# Altium schematic symbol library Orient.SchLib: 98 symbols (part 1 of 5)
Pins are listed as number, name and electrical type; pins without a type are passive.

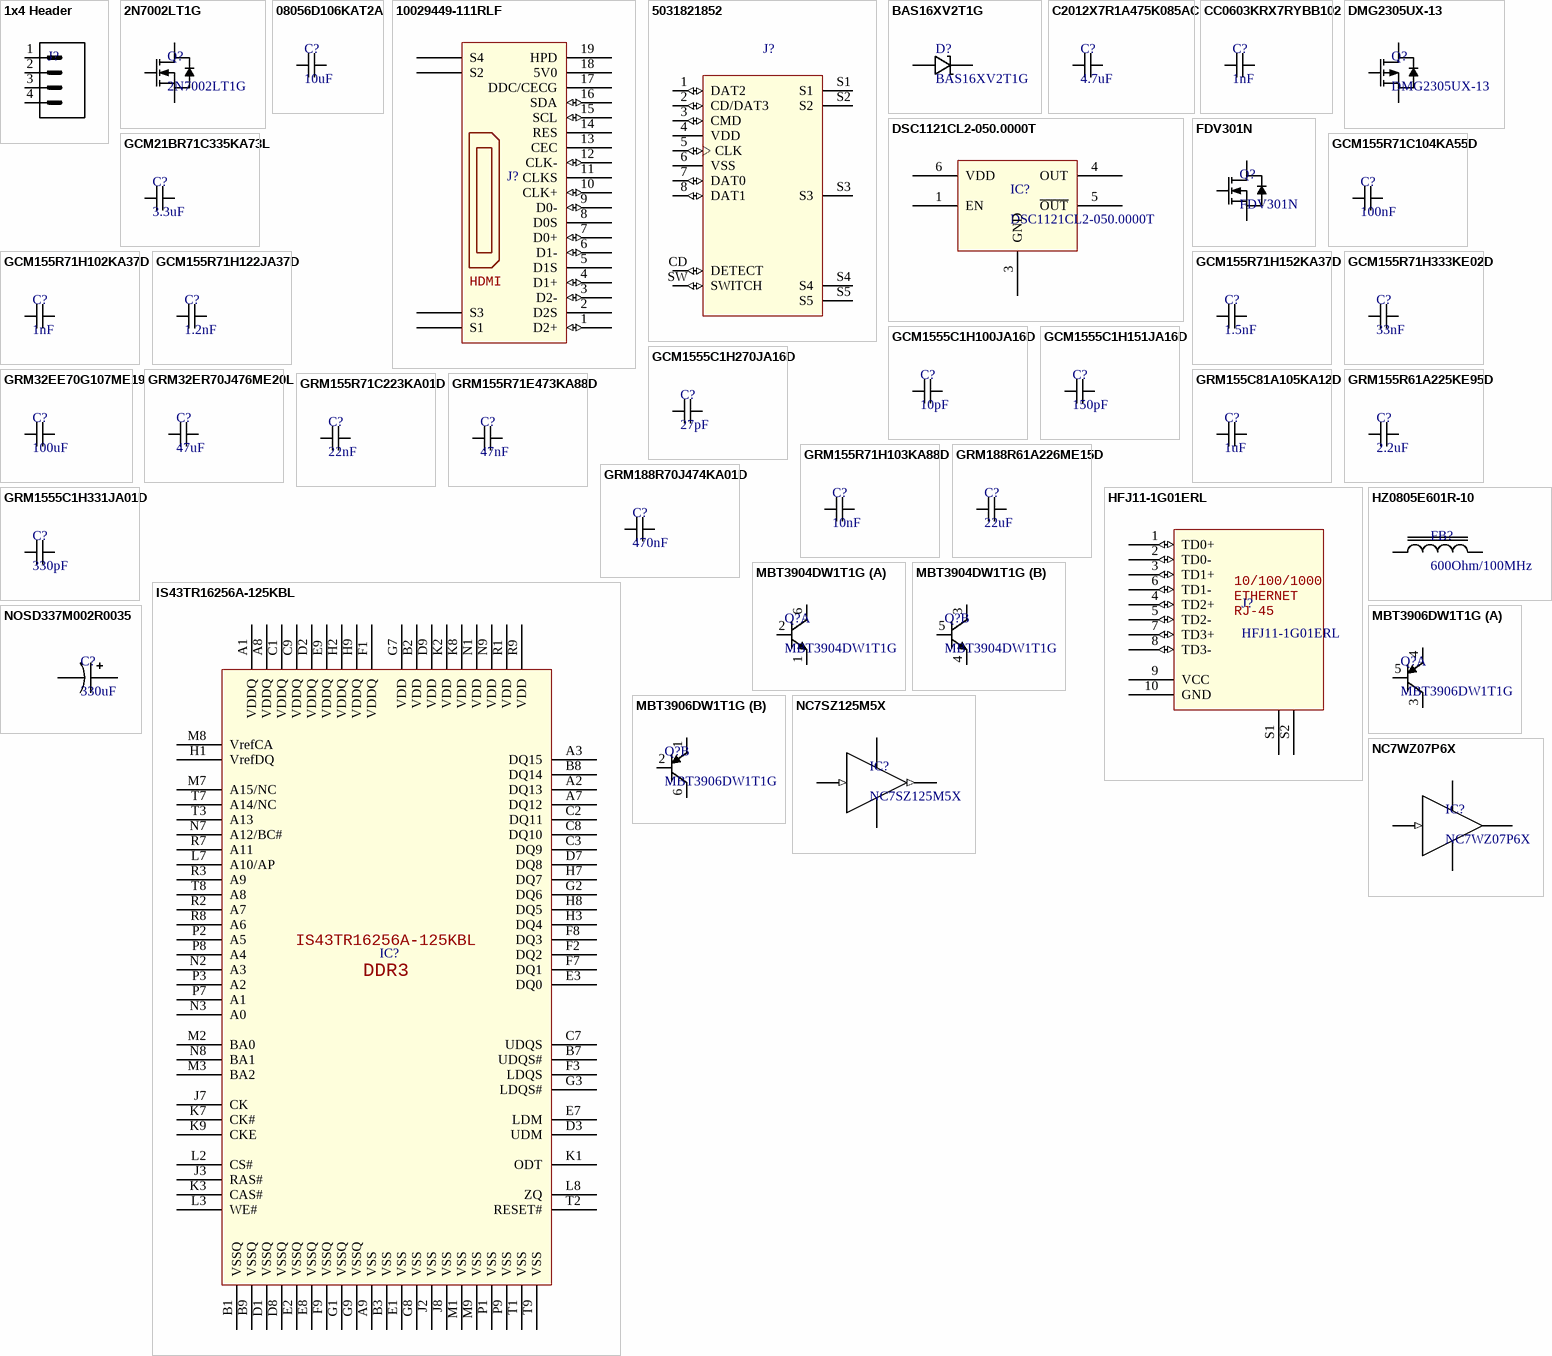
[diagram p0: symbols 1x4 Header to NOSD337M002R0035]

## 1x4 Header
designator J?  (value not drawn)
Header Female 1x4 2.54mm; Manufacturer: Sullins; Manufacturer Part Number: PPTC041LFBN-RC; Number of Positions: 4; Connector Type: Header,Socket; Pitch: 0.1inch; Supplier 1: Digi-Key; Stock 1: 5302; Pricing 1: 1=0.45000, 10=0.42400, 100=0.32500, 500=0.28260, 1000=0.23315, 5000=0.20489, 10000=0.20410 (USD); RoHS: Yes; Mount: Through Hole; Color: Black; Contact Plating: Tin; Contact Material: Bronze; Housing Material: Plastic; Package Quantity: 1000; Number of Rows: 1; Packaging: Bulk; Termination: Solder; Length: 10.7mm; Height: 8.5mm; Width: 2.5mm; Lead Free: Lead Free; ComponentLink1URL: https://media.digikey.com/pdf/Data%20Sheets/Sullins%20PDFs/Female_Headers.100_DS.pdf?src-supplier=Digi-Key; ComponentLink1Description: https://media.digikey.com/pdf/Data%20Sheets/Sullins%20PDFs/Female_Headers.100_DS.pdf?src-supplier=Digi-Key; ComponentLink2URL: http://www.sullinscorp.com/catalogs/78_Page80-81_HEADER_.100_2.54mm_FEMALE.pdf?src-supplier=Future+Electronics; ComponentLink2Description: http://www.sullinscorp.com/catalogs/78_Page80-81_HEADER_.100_2.54mm_FEMALE.pdf?src-supplier=Future+Electronics
footprint HEADER_1X4 (1x4 Female Header 2.54mm Pitch)
pins: 1, 2, 3, 4

## 2N7002LT1G
designator Q?
N-Channel MOSFET; Manufacturer: ON Semiconductor; Continuous Drain Current (ID): 115mA; Turn-Off Delay Time: 40ns; Turn-On Delay Time: 20ns; Gate to Source Voltage (Vgs): 20V; Rds On Max: 7.5R; Input Capacitance: 50pF; Nominal Vgs: 2.5V; Number of Elements: 1; Max Power Dissipation: 225mW; Drain to Source Voltage (Vdss): 60V; Power Dissipation: 300mW; Element Configuration: Single; Supplier 1: Digi-Key; Manufacturer Part Number: 2N7002LT1G; Stock 1: 2100666; Pricing 1: 1=0.19000, 10=0.16900, 100=0.09210, 500=0.05668, 1000=0.03864 (USD); RoHS: Yes; Case/Package: SOT-23-3; Number of Pins: 3; Contact Plating: Tin,Matte; Min Operating Temperature: -55°C; Max Operating Temperature: 150°C; Package Quantity: 1; Packaging: Tape and Reel; Drain to Source Breakdown Voltage: 60V; Drain to Source Resistance: 7.5R; Threshold Voltage: 2.5V; Voltage Rating (DC): 60V; Current Rating: 115mA; On-State Resistance: 7.5R; Number of Channels: 1; Length: 3.04mm; Height: 1.01mm; Width: 1.4mm; Radiation Hardening: No; REACH SVHC: No SVHC; Lead Free: Lead Free; Halogen Free: Halogen Free; ComponentLink1URL: https://datasheet.ciiva.com/936/2n7002l-d-936784.pdf?src-supplier=Digi-Key; ComponentLink1Description: https://datasheet.ciiva.com/936/2n7002l-d-936784.pdf?src-supplier=Digi-Key; ComponentLink2URL: https://datasheet.ciiva.com/22749/1747988-22749570.pdf?src-supplier=Element14; ComponentLink2Description: https://datasheet.ciiva.com/22749/1747988-22749570.pdf?src-supplier=Element14; ComponentLink3URL: https://datasheet.ciiva.com/1188/97418-1188470.pdf?src-supplier=Element14; ComponentLink3Description: https://datasheet.ciiva.com/1188/97418-1188470.pdf?src-supplier=Element14; ComponentLink4URL: https://datasheet.ciiva.com/936/2n7002l-d-936785.pdf?src-supplier=Digi-Key; ComponentLink4Description: https://datasheet.ciiva.com/936/2n7002l-d-936785.pdf?src-supplier=Digi-Key; ComponentLink5URL: https://datasheet.ciiva.com/936/2n7002l-d-936786.pdf?src-supplier=Digi-Key; ComponentLink5Description: https://datasheet.ciiva.com/936/2n7002l-d-936786.pdf?src-supplier=Digi-Key; ComponentLink6URL: https://datasheet.ciiva.com/1254/1747988-1254500.pdf?src-supplier=Newark; ComponentLink6Description: https://datasheet.ciiva.com/1254/1747988-1254500.pdf?src-supplier=Newark; ComponentLink7URL: https://datasheet.ciiva.com/24157/2n7002l-d-24157398.pdf?src-supplier=Future+Electronics; ComponentLink7Description: https://datasheet.ciiva.com/24157/2n7002l-d-24157398.pdf?src-supplier=Future+Electronics; ComponentLink8URL: https://datasheet.ciiva.com/1188/97418-1188471.pdf?src-supplier=Element14; ComponentLink8Description: https://datasheet.ciiva.com/1188/97418-1188471.pdf?src-supplier=Element14; ComponentLink9URL: https://datasheet.ciiva.com/8114/2n7002l-d-8114823.pdf?src-supplier=Avnet; ComponentLink9Description: https://datasheet.ciiva.com/8114/2n7002l-d-8114823.pdf?src-supplier=Avnet; ComponentLink10URL: https://datasheet.ciiva.com/3304/2n7002l-d-3304393.pdf?src-supplier=Avnet; ComponentLink10Description: https://datasheet.ciiva.com/3304/2n7002l-d-3304393.pdf?src-supplier=Avnet; ComponentLink11URL: https://datasheet.ciiva.com/26146/2n7002l-d-26146173.pdf?src-supplier=Avnet+Europe; ComponentLink11Description: https://datasheet.ciiva.com/26146/2n7002l-d-26146173.pdf?src-supplier=Avnet+Europe; ComponentLink12URL: https://datasheet.ciiva.com/16542/2n7002l-d-16542607.pdf?src-supplier=Avnet+Asia; ComponentLink12Description: https://datasheet.ciiva.com/16542/2n7002l-d-16542607.pdf?src-supplier=Avnet+Asia
footprint SOT-23 (SOT23, 3-Leads, Body 2.92x2.37mm, Pitch 0.95mm, IPC Medium Density)
pins: 1 G, 2 S, 3 D

## 08056D106KAT2A
designator C?, comment 10uF
MLCC 10uF 0805 SMD; Manufacturer: Kyocera AVX; Manufacturer Part Number: 08056D106KAT2A; Dielectric Material: Ceramic; Voltage Rating: 6.3V; Tolerance: 10%; Dielectric: X5R; Insulation Resistance: 500MR; Supplier 1: Digi-Key; Stock 1: 217962; Pricing 1: 1=0.50000, 10=0.35100, 100=0.23100, 500=0.17112, 1000=0.14545 (USD); RoHS: Yes; Mount: Surface Mount,PCB; Case/Package: 0805; Number of Pins: 2; Case Code (Imperial): 0805; Case Code (Metric): 2012; Min Operating Temperature: -55°C; Max Operating Temperature: 85°C; Capacitance: 10uF; Package Quantity: 1; Voltage Rating (DC): 6.3V; Packaging: Tape and Reel; Termination: SMD/SMT; Voltage: 6.3V; Length: 2.01mm; Height: 1.4mm; Width: 1.25mm; Thickness: 0.055inch; Depth: 1.25mm; Radiation Hardening: No; REACH SVHC: No SVHC; Lead Free: Lead Free; ComponentLink1URL: https://datasheet.ciiva.com/11788/0900766b80def1a5-11788549.pdf?src-supplier=RSComponents; ComponentLink1Description: https://datasheet.ciiva.com/11788/0900766b80def1a5-11788549.pdf?src-supplier=RSComponents; ComponentLink2URL: https://datasheet.ciiva.com/19467/2012662-19467718.pdf?src-supplier=Jameco; ComponentLink2Description: https://datasheet.ciiva.com/19467/2012662-19467718.pdf?src-supplier=Jameco; ComponentLink3URL: https://datasheet.ciiva.com/151/cx5r-151672.pdf?src-supplier=Digi-Key; ComponentLink3Description: https://datasheet.ciiva.com/151/cx5r-151672.pdf?src-supplier=Digi-Key; ComponentLink4URL: https://datasheet.ciiva.com/7812/26587-7812184.pdf?src-supplier=Element14; ComponentLink4Description: https://datasheet.ciiva.com/7812/26587-7812184.pdf?src-supplier=Element14; ComponentLink5URL: https://datasheet.ciiva.com/14598/70001028-14598616.pdf?src-supplier=Allied+Electronics; ComponentLink5Description: https://datasheet.ciiva.com/14598/70001028-14598616.pdf?src-supplier=Allied+Electronics; ComponentLink6URL: https://datasheet.ciiva.com/151/cx5r-151673.pdf?src-supplier=Digi-Key; ComponentLink6Description: https://datasheet.ciiva.com/151/cx5r-151673.pdf?src-supplier=Digi-Key; ComponentLink7URL: https://datasheet.ciiva.com/7812/26587-7812185.pdf?src-supplier=Element14; ComponentLink7Description: https://datasheet.ciiva.com/7812/26587-7812185.pdf?src-supplier=Element14; ComponentLink8URL: https://datasheet.ciiva.com/151/cx5r-151674.pdf?src-supplier=Digi-Key; ComponentLink8Description: https://datasheet.ciiva.com/151/cx5r-151674.pdf?src-supplier=Digi-Key; ComponentLink9URL: https://datasheet.ciiva.com/7812/1666675-7812186.pdf?src-supplier=Element14; ComponentLink9Description: https://datasheet.ciiva.com/7812/1666675-7812186.pdf?src-supplier=Element14; ComponentLink10URL: https://datasheet.ciiva.com/2988/cx5r-2988044.pdf?src-supplier=Avnet; ComponentLink10Description: https://datasheet.ciiva.com/2988/cx5r-2988044.pdf?src-supplier=Avnet; ComponentLink11URL: https://datasheet.ciiva.com/16392/cx5r-16392797.pdf?src-supplier=Future+Electronics; ComponentLink11Description: https://datasheet.ciiva.com/16392/cx5r-16392797.pdf?src-supplier=Future+Electronics; ComponentLink12URL: https://datasheet.ciiva.com/16544/cx5r-16544062.pdf?src-supplier=Avnet+Asia; ComponentLink12Description: https://datasheet.ciiva.com/16544/cx5r-16544062.pdf?src-supplier=Avnet+Asia
footprint CAP0805 (Chip Capacitor, 2-Leads, Body 2.00x1.25mm, IPC Medium Density)
pins: 1, 2

## 10029449-111RLF
designator J?, comment HDMI Connector  (value not drawn)
HDMI 1.4 Connector 19 Position; Manufacturer: Amphenol FCI; Manufacturer Part Number: 10029449-111RLF; Body Material: Stainless Steel; Gender: Receptacle; Voltage Rating: 40V; Number of Contacts: 19; Insulation Resistance: 100MR; Number of Ports: 1; Pitch: 0.5mm; Supplier 1: Digi-Key; Stock 1: 21394; Pricing 1: 1=0.80000, 10=0.74700, 25=0.67200, 50=0.59740, 100=0.57250 (USD); RoHS: Yes; Mount: Surface Mount,Horizontal; Contact Material: Copper Alloy,Bronze; Contact Plating: Gold; Color: Black; Number of Terminals: 19; Housing Material: Thermoplastic; Min Operating Temperature: -55°C; Max Operating Temperature: 85°C; Termination: Solder; Orientation: Right Angle; Package Quantity: 400; Packaging: Tape and Reel; Connector Type: HDMI; Number of Positions: 19; Max Voltage Rating (AC): 40V; Features: Shielded; Length: 15.7mm; Depth: 9.5mm; Radiation Hardening: No; REACH SVHC: No SVHC; Lead Free: Lead Free; ComponentLink1URL: https://datasheet.ciiva.com/851/10029449-851120.pdf?src-supplier=Digi-Key; ComponentLink1Description: https://datasheet.ciiva.com/851/10029449-851120.pdf?src-supplier=Digi-Key; ComponentLink2URL: https://datasheet.ciiva.com/851/10029449-851118.pdf?src-supplier=Digi-Key; ComponentLink2Description: https://datasheet.ciiva.com/851/10029449-851118.pdf?src-supplier=Digi-Key; ComponentLink3URL: https://datasheet.ciiva.com/851/10029449-851119.pdf?src-supplier=Digi-Key; ComponentLink3Description: https://datasheet.ciiva.com/851/10029449-851119.pdf?src-supplier=Digi-Key
footprint HDMI (SMD, 19-Leads, Body 15x9.5mm, Pitch 0.5mm)
pins: 1 D2+ (io), 2 D2S, 3 D2- (io), 4 D1+ (io), 5 D1S, 6 D1- (io), 7 D0+ (io), 8 D0S, 9 D0- (io), 10 CLK+ (io), 11 CLKS, 12 CLK- (io), 13 CEC, 14 RES, 15 SCL (io), 16 SDA (io), 17 DDC/CECG, 18 5V0, 19 HPD, S1, S2, S3, S4

## 5031821852
designator J?  (value not drawn)
MICRO SD NORMAL ULTRALOWPRO8CKTE; MF: Molex; Digi-Key_Part_Number: WM12834CT-ND; SnapEDA_Link: https://www.snapeda.com/parts/5031821852/Molex/view-part/?ref=snap; Package: None; MP: 5031821852; Digi-Key_Purchase_URL: https://www.digikey.com/product-detail/en/molex/5031821852/WM12834CT-ND/5823232?utm_source=snapeda&utm_medium=aggregator&utm_campaign=symbol; Value: *; ComponentLink1Description: Technical Drawing; ComponentLink1URL: https://www.molex.com/pdm_docs/sd/5031821852_sd.pdf
footprint 5031821852
pins: 1 DAT2 (io), 2 CD/DAT3 (io), 3 CMD (io), 4 VDD (power), 5 CLK (io), 6 VSS (power), 7 DAT0 (io), 8 DAT1 (io), CD DETECT (io), S1, S2, S3, S4, S5, SW SWITCH (io)

## BAS16XV2T1G
designator D?
DIODE GEN PURP 75V 200MA SOD523; Manufacturer: ON Semiconductor; Peak Reverse Current: 1uA; Reverse Recovery Time: 6ns; Power Dissipation: 200mW; Element Configuration: Single; Max Surge Current: 500mA; Forward Voltage: 1.25V; Polarity: Standard; Capacitance: 2pF; Supplier 1: Digi-Key; Manufacturer Part Number: BAS16XV2T1G; Stock 1: 246361; Pricing 1: 1=0.13000, 10=0.11600, 100=0.06330, 500=0.03898, 1000=0.02658 (USD); RoHS: Yes; Case/Package: SOD-523-2; Number of Pins: 2; Contact Plating: Tin,Matte; Min Operating Temperature: -55°C; Max Operating Temperature: 150°C; Package Quantity: 1; Forward Current: 200mA; Packaging: Tape and Reel; Average Rectified Current: 200mA; Max Repetitive Reverse Voltage (Vrrm): 75V; Max Reverse Voltage (DC): 75V; Recovery Time: 6ns; Max Reverse Leakage Current: 1uA; Peak Non-Repetitive Surge Current: 500mA; Max Forward Surge Current (Ifsm): 500mA; Output Current: 200mA; Length: 1.3mm; Height: 0.7mm; Width: 0.9mm; Radiation Hardening: No; Lead Free: Lead Free; Halogen Free: Halogen Free; REACH SVHC: No SVHC; ComponentLink1URL: https://datasheet.ciiva.com/915/bas16xv2t1-d-915360.pdf?src-supplier=Digi-Key; ComponentLink1Description: https://datasheet.ciiva.com/915/bas16xv2t1-d-915360.pdf?src-supplier=Digi-Key; ComponentLink2URL: https://datasheet.ciiva.com/4434/bas16xv2t1-d-103464-4434928.pdf?src-supplier=Mouser; ComponentLink2Description: https://datasheet.ciiva.com/4434/bas16xv2t1-d-103464-4434928.pdf?src-supplier=Mouser; ComponentLink3URL: https://datasheet.ciiva.com/22663/1708232-22663646.pdf?src-supplier=Element14; ComponentLink3Description: https://datasheet.ciiva.com/22663/1708232-22663646.pdf?src-supplier=Element14; ComponentLink4URL: https://datasheet.ciiva.com/36525/806485-36525908.pdf?src-supplier=Jameco; ComponentLink4Description: https://datasheet.ciiva.com/36525/806485-36525908.pdf?src-supplier=Jameco; ComponentLink5URL: https://datasheet.ciiva.com/15144/getdatasheetpartid-84399-15144565.pdf?src-supplier=Verical; ComponentLink5Description: https://datasheet.ciiva.com/15144/getdatasheetpartid-84399-15144565.pdf?src-supplier=Verical; ComponentLink6URL: https://datasheet.ciiva.com/16475/bas16xv2t1-d-16475723.pdf?src-supplier=Avnet+Asia; ComponentLink6Description: https://datasheet.ciiva.com/16475/bas16xv2t1-d-16475723.pdf?src-supplier=Avnet+Asia; ComponentLink7URL: https://datasheet.ciiva.com/25930/bas16xv2t1-d-25930683.pdf?src-supplier=Avnet+Europe; ComponentLink7Description: https://datasheet.ciiva.com/25930/bas16xv2t1-d-25930683.pdf?src-supplier=Avnet+Europe
pins: 1 C, 2 A

## C2012X7R1A475K085AC
designator C?, comment 4.7uF
MLCC 4.7uF 0805 SMD; Manufacturer: TDK; Manufacturer Part Number: C2012X7R1A475K085AC; Dielectric Material: Ceramic; Tolerance: 10%; Voltage Rating: 10V; Dielectric: X7R; Supplier 1: Digi-Key; Stock 1: 87407; Pricing 1: 1=0.22000, 10=0.15200, 100=0.08600, 500=0.06072, 1000=0.05313 (USD); RoHS: Yes; Mount: Surface Mount; Case/Package: 0805; Case Code (Metric): 2012; Case Code (Imperial): 0805; Min Operating Temperature: -55°C; Max Operating Temperature: 125°C; Package Quantity: 4000; Packaging: Cut Tape; Capacitance: 4.7uF; Voltage Rating (DC): 10V; Length: 0.079inch; Width: 0.049inch; Thickness: 0.039inch; REACH SVHC: No SVHC; Lead Free: Lead Free; ComponentLink1URL: https://datasheet.ciiva.com/14886/tdkmlcccaprange-14886121.pdf?src-supplier=Digi-Key; ComponentLink1Description: https://datasheet.ciiva.com/14886/tdkmlcccaprange-14886121.pdf?src-supplier=Digi-Key; ComponentLink2Description: https://product.tdk.com/info/en/catalog/datasheets/mlcc_commercial_general_en.pdf; ComponentLink2URL: https://product.tdk.com/info/en/catalog/datasheets/mlcc_commercial_general_en.pdf
footprint CAP0805 (Chip Capacitor, 2-Leads, Body 2.00x1.25mm, IPC Medium Density)
pins: 1, 2

## CC0603KRX7RYBB102
designator C?, comment 1nF
MLCC 1nF 250V 0603 SMD; Manufacturer: Yageo; Manufacturer Part Number: CC0603KRX7RYBB102; Tolerance: 10%; Supplier 1: Digi-Key; Stock 1: 12106; Pricing 1: 1=0.19000, 10=0.12900, 100=0.06540, 500=0.04478, 1000=0.03961 (USD); RoHS: Yes; Mount: Surface Mount; Case/Package: 0603; Min Operating Temperature: -55°C; Max Operating Temperature: 125°C; Packaging: Tape and Reel; Capacitance: 1nF; Voltage Rating: 250V; Length: 0.063inch; Width: 0.031inch; Thickness: 0.035inch; ComponentLink1URL: http://www.yageo.com/exep/pages/download/literatures/ProductSelectionGuide%202014_Final_2.pdf?src-supplier=Digi-Key; ComponentLink1Description: http://www.yageo.com/exep/pages/download/literatures/ProductSelectionGuide%202014_Final_2.pdf?src-supplier=Digi-Key; ComponentLink2URL: http://www.yageo.com/documents/recent/UPY-NP0X7R_MV_100-to-630V_21.pdf?src-supplier=Digi-Key; ComponentLink2Description: http://www.yageo.com/documents/recent/UPY-NP0X7R_MV_100-to-630V_21.pdf?src-supplier=Digi-Key
footprint CAP0603 (Chip Capacitor, 2-Leads, Body 1.60x0.80mm, IPC Medium Density)
pins: 1, 2

## DMG2305UX-13
designator Q?
P-Channel MOSFET; Manufacturer: Diodes; Rise Time: 13.7ns; Rds On Max: 52mR; Input Capacitance: 808pF; Continuous Drain Current (ID): 4.2A; Drain to Source Voltage (Vdss): 20V; Max Power Dissipation: 1.4W; Turn-On Delay Time: 10.8ns; Turn-Off Delay Time: 79.3ns; Fall Time: 34.7ns; Threshold Voltage: -900mV; Element Configuration: Single; Gate to Source Voltage (Vgs): 8V; Number of Channels: 1; Drain to Source Breakdown Voltage: -20V; On-State Resistance: 65MR; Supplier 1: Digi-Key; Manufacturer Part Number: DMG2305UX-13; Stock 1: 668135; Pricing 1: 1=0.38000, 10=0.31100, 100=0.16500, 500=0.10852, 1000=0.07380 (USD); RoHS: Yes; Mount: Surface Mount; Case/Package: SOT-23; Number of Pins: 3; Weight: 0.000282oz; Min Operating Temperature: -55°C; Max Operating Temperature: 150°C; Package Quantity: 1; Packaging: Tape and Reel; Drain to Source Resistance: 52mR; Length: 3mm; Height: 1.1mm; Width: 1.4mm; Radiation Hardening: No; REACH SVHC: No SVHC; Lead Free: Lead Free; ComponentLink1URL: https://datasheet.ciiva.com/30023/dmg2305ux-30023840.pdf?src-supplier=Avnet; ComponentLink1Description: https://datasheet.ciiva.com/30023/dmg2305ux-30023840.pdf?src-supplier=Avnet; ComponentLink2URL: https://datasheet.ciiva.com/18566/dmg2305ux-18566949.pdf?src-supplier=Digi-Key; ComponentLink2Description: https://datasheet.ciiva.com/18566/dmg2305ux-18566949.pdf?src-supplier=Digi-Key; ComponentLink3URL: https://datasheet.ciiva.com/18566/dmg2305ux-18566950.pdf?src-supplier=Digi-Key; ComponentLink3Description: https://datasheet.ciiva.com/18566/dmg2305ux-18566950.pdf?src-supplier=Digi-Key; ComponentLink4URL: https://datasheet.ciiva.com/18566/dmg2305ux-18566951.pdf?src-supplier=Digi-Key; ComponentLink4Description: https://datasheet.ciiva.com/18566/dmg2305ux-18566951.pdf?src-supplier=Digi-Key; ComponentLink5URL: https://datasheet.ciiva.com/26993/dmg2305ux-26993543.pdf?src-supplier=Future+Electronics; ComponentLink5Description: https://datasheet.ciiva.com/26993/dmg2305ux-26993543.pdf?src-supplier=Future+Electronics
footprint SOT-23 (SOT23, 3-Leads, Body 2.92x2.37mm, Pitch 0.95mm, IPC Medium Density)
pins: 1 G, 2 S, 3 D

## DSC1121CL2-050.0000T
designator IC?
Oscillator MEMS 50.000MHZ CMOS SMD; Manufacturer: Microchip; Frequency: 50MHz; Max Supply Current: 35mA; Frequency Stability: 25ppm; Supplier 1: Digi-Key; Manufacturer Part Number: DSC1121CL2-050.0000T; Stock 1: 1094; Pricing 1: 1=1.16000, 25=0.96840, 100=0.88580 (USD); RoHS: Yes; Mount: Surface Mount; Case/Package: SMD/SMT; Min Operating Temperature: -40°C; Max Operating Temperature: 105°C; Packaging: Tape and Reel; Length: 0.126inch; Height: 0.035inch; Width: 0.098inch; Ratings: AEC-Q100; ComponentLink1URL: http://www.mouser.com/ds/2/268/DSC1101%20DSC1121%20Datasheet%20MKQBPD11041001-6-961724.pdf?src-supplier=Mouser; ComponentLink1Description: http://www.mouser.com/ds/2/268/DSC1101%20DSC1121%20Datasheet%20MKQBPD11041001-6-961724.pdf?src-supplier=Mouser; ComponentLink2URL: http://www.microchip.com/mymicrochip/filehandler.aspx?ddocname=en576722&src-supplier=Digi-Key; ComponentLink2Description: http://www.microchip.com/mymicrochip/filehandler.aspx?ddocname=en576722&src-supplier=Digi-Key
pins: 1 EN, 3 GND, 4 OUT, 5 ~{OUT}, 6 VDD

## FDV301N
designator Q?
N-Channel MOSFET; Manufacturer: Fairchild; Rds(on) Test Voltage Vgs: 2.7V; Threshold Voltage Vgs Typ: 850mV; Voltage Vds Typ: 25V; Transistor Case Style: SOT-23; Reel Quantity: 3000; Voltage Vgs Rds on Measurement: 4.5V; Power Dissipation Pd: 350mW; Continuous Drain Current Id: 220mA; Transistor Polarity: NChannel; No. of Transistors: 1; Package Version: Rev. 12, 03/2016; Voltage Vgs th Max: 1.5V; ESD HBM: 6kV; Pulse Current Idm: 500mA; Current Temperature: 25degC; On Resistance Rds(on): 5ohm; External Depth: 2.5mm; SMD Marking: 301; No. of Pins: 3; External Width: 3.05mm; SVHC: NoSVHC(19-Dec-2012); External Length / Height: 1.12mm; Termination Type: SMD; Package Reference: SOT23-3; Package URL: http://www.fairchildsemi.com/dwg/MA/MA03D.pdf; Voltage Vgs Max: 850mV; Drain Source Voltage Vds: 25V; Operating Temperature Max: 150degC; Package Description: 3-Pin Small Outline Transistor, Body 2.92 x 1.325 mm, Pitch 0.95 mm; Operating Temperature Min: -55degC; Datasheet Version: Jun-09; Tape Width: 8mm; Full Power Rating Temperature: 25degC; Datasheet URL: https://datasheet.ciiva.com/8114/fdv301n-8114688.pdf; Package / Case: SOT-23; Manufacturer URL: https://www.fairchildsemi.com/; Current Id Max: 220mA; Operating Temperature Range: -55degCto+150degC
footprint SOT-23 (SOT23, 3-Leads, Body 2.92x2.37mm, Pitch 0.95mm, IPC Medium Density)
pins: 1 G, 2 S, 3 D

## GCM21BR71C335KA73L
designator C?, comment 3.3uF
MLCC 3.3uF 0805 SMD; Manufacturer: Murata; Manufacturer Part Number: GCM21BR71C335KA73L; Tolerance: 10%; Dielectric: X7R; Voltage Rating: 16V; Supplier 1: Digi-Key; Stock 1: 45507; Pricing 1: 1=0.43000, 10=0.30000, 100=0.17990, 500=0.13492, 1000=0.11393 (USD); RoHS: Yes; Mount: Surface Mount; Case/Package: 0805; Case Code (Metric): 2012; Case Code (Imperial): 0805; Min Operating Temperature: -55°C; Max Operating Temperature: 125°C; Capacitance: 3.3uF; Packaging: Tape and Reel; Voltage Rating (DC): 16V; Length: 2mm; Height: 1.25mm; Width: 0.049inch; Thickness: 0.057inch; Depth: 1.25mm; Ratings: AEC-Q200; Radiation Hardening: No; ComponentLink1URL: https://datasheet.ciiva.com/26889/getdatasheetpartid-729785-26889176.pdf?src-supplier=Verical; ComponentLink1Description: https://datasheet.ciiva.com/26889/getdatasheetpartid-729785-26889176.pdf?src-supplier=Verical; ComponentLink2URL: https://datasheet.ciiva.com/11614/product-11614111.pdf?src-supplier=Avnet; ComponentLink2Description: https://datasheet.ciiva.com/11614/product-11614111.pdf?src-supplier=Avnet
footprint CAP0805 (Chip Capacitor, 2-Leads, Body 2.00x1.25mm, IPC Medium Density)
pins: 1, 2

## GCM155R71C104KA55D
designator C?, comment 100nF
MLCC 100nF 0402 SMD; Manufacturer: Murata; Manufacturer Part Number: GCM155R71C104KA55D; Tolerance: 10%; Dielectric: X7R; Voltage Rating: 16V; Supplier 1: Digi-Key; Stock 1: 27621788; Pricing 1: 1=0.10000, 10=0.05900, 100=0.02630, 500=0.01878, 1000=0.01476, 2500=0.01341, 5000=0.01234 (USD); RoHS: Yes; Mount: Surface Mount; Case/Package: 0402; Case Code (Metric): 1005; Case Code (Imperial): 0402; Min Operating Temperature: -55°C; Max Operating Temperature: 125°C; Capacitance: 100nF; Package Quantity: 1; Packaging: Tape and Reel; Voltage Rating (DC): 16V; Termination: SMD/SMT; Voltage: 16V; Length: 1mm; Height: 0.5mm; Width: 0.02inch; Thickness: 0.022inch; Depth: 0.5mm; Ratings: AEC-Q200; Radiation Hardening: No; REACH SVHC: No SVHC; Lead Free: Lead Free; ComponentLink1URL: https://datasheet.ciiva.com/11786/0900766b80ef92d0-11786380.pdf?src-supplier=RSComponents; ComponentLink1Description: https://datasheet.ciiva.com/11786/0900766b80ef92d0-11786380.pdf?src-supplier=RSComponents; ComponentLink2URL: https://datasheet.ciiva.com/18183/getdatasheetpartid-220774-18183517.pdf?src-supplier=Verical; ComponentLink2Description: https://datasheet.ciiva.com/18183/getdatasheetpartid-220774-18183517.pdf?src-supplier=Verical; ComponentLink3URL: https://datasheet.ciiva.com/2989/product-2989234.pdf?src-supplier=Avnet; ComponentLink3Description: https://datasheet.ciiva.com/2989/product-2989234.pdf?src-supplier=Avnet; ComponentLink4URL: https://datasheet.ciiva.com/164/product-164315.pdf?src-supplier=Digi-Key; ComponentLink4Description: https://datasheet.ciiva.com/164/product-164315.pdf?src-supplier=Digi-Key; ComponentLink5URL: https://datasheet.ciiva.com/164/product-164316.pdf?src-supplier=Digi-Key; ComponentLink5Description: https://datasheet.ciiva.com/164/product-164316.pdf?src-supplier=Digi-Key; ComponentLink6URL: https://datasheet.ciiva.com/11463/product-11463804.pdf?src-supplier=Avnet; ComponentLink6Description: https://datasheet.ciiva.com/11463/product-11463804.pdf?src-supplier=Avnet
footprint CAP0402 (Chip Capacitor, 2-Leads, Body 1.00x0.50mm, IPC Medium Density)
pins: 1, 2

## GCM155R71H102KA37D
designator C?, comment 1nF
MLCC 1nF 0402 SMD; Manufacturer: Murata; Manufacturer Part Number: GCM155R71H102KA37D; Voltage Rating: 50V; Tolerance: 10%; Dielectric: X7R; Supplier 1: Digi-Key; Stock 1: 18060146; Pricing 1: 1=0.10000, 10=0.03900, 100=0.01720, 500=0.01228, 1000=0.00965, 2500=0.00878, 5000=0.00807 (USD); RoHS: Yes; Mount: Surface Mount; Case/Package: 0402; Case Code (Metric): 1005; Case Code (Imperial): 0402; Min Operating Temperature: -55°C; Max Operating Temperature: 125°C; Package Quantity: 1; Capacitance: 1nF; Packaging: Tape and Reel; Voltage Rating (DC): 50V; Termination: SMD/SMT; Voltage: 50V; Length: 1mm; Height: 0.5mm; Width: 0.02inch; Thickness: 0.022inch; Depth: 0.5mm; Ratings: AEC-Q200; Radiation Hardening: No; REACH SVHC: No SVHC; Lead Free: Lead Free; ComponentLink1URL: https://datasheet.ciiva.com/130/product-130720.pdf?src-supplier=Digi-Key; ComponentLink1Description: https://datasheet.ciiva.com/130/product-130720.pdf?src-supplier=Digi-Key; ComponentLink2URL: https://datasheet.ciiva.com/18183/getdatasheetpartid-140970-18183520.pdf?src-supplier=Verical; ComponentLink2Description: https://datasheet.ciiva.com/18183/getdatasheetpartid-140970-18183520.pdf?src-supplier=Verical; ComponentLink3URL: https://datasheet.ciiva.com/3778/3103gcm155r71h102ka3723-3778878.pdf?src-supplier=Arrow; ComponentLink3Description: https://datasheet.ciiva.com/3778/3103gcm155r71h102ka3723-3778878.pdf?src-supplier=Arrow; ComponentLink4URL: https://datasheet.ciiva.com/11786/0900766b80ef92d0-11786143.pdf?src-supplier=RSComponents; ComponentLink4Description: https://datasheet.ciiva.com/11786/0900766b80ef92d0-11786143.pdf?src-supplier=RSComponents; ComponentLink5URL: https://datasheet.ciiva.com/16213/product-16213384.pdf?src-supplier=Future+Electronics; ComponentLink5Description: https://datasheet.ciiva.com/16213/product-16213384.pdf?src-supplier=Future+Electronics
footprint CAP0402 (Chip Capacitor, 2-Leads, Body 1.00x0.50mm, IPC Medium Density)
pins: 1, 2

## GCM155R71H122JA37D
designator C?, comment 1.2nF
MLCC 1.2nF 0402 SMD; Manufacturer: Murata; Manufacturer Part Number: GCM155R71H122JA37D; Tolerance: 5%; Voltage Rating: 50V; Supplier 1: Digi-Key; Stock 1: 8026; Pricing 1: 1=0.10000, 10=0.04100, 100=0.01820, 500=0.01300, 1000=0.01022, 2500=0.00929, 5000=0.00855 (USD); RoHS: No; Mount: Surface Mount; Case/Package: 0402; Case Code (Imperial): 0402; Case Code (Metric): 1005; Min Operating Temperature: -55°C; Max Operating Temperature: 125°C; Packaging: Tape and Reel; Capacitance: 1.2nF; Ratings: AEC-Q200; ComponentLink1URL: http://search.murata.co.jp/Ceramy/image/img/A01X/G101/ENG/GCM155R71H122JA37-01.pdf?src-supplier=Digi-Key; ComponentLink1Description: http://search.murata.co.jp/Ceramy/image/img/A01X/G101/ENG/GCM155R71H122JA37-01.pdf?src-supplier=Digi-Key
footprint CAP0402 (Chip Capacitor, 2-Leads, Body 1.00x0.50mm, IPC Medium Density)
pins: 1, 2

## GCM155R71H152KA37D
designator C?, comment 1.5nF
MLCC 1.5nF 0402 SMD; Manufacturer: Murata; Manufacturer Part Number: GCM155R71H152KA37D; Tolerance: 10%; Dielectric: X7R; Voltage Rating: 50V; Supplier 1: Digi-Key; Stock 1: 64408; Pricing 1: 1=0.10000, 10=0.04300, 100=0.01920, 500=0.01372, 1000=0.01078, 2500=0.00980, 5000=0.00902 (USD); RoHS: Yes; Mount: Surface Mount; Case/Package: 0402; Weight: 2.3E-05oz; Case Code (Metric): 1005; Case Code (Imperial): 0402; Min Operating Temperature: -55°C; Max Operating Temperature: 125°C; Capacitance: 1.5nF; Packaging: Tape and Reel; Package Quantity: 10000; Voltage Rating (DC): 50V; Termination: SMD/SMT; Length: 1mm; Height: 0.5mm; Width: 0.02inch; Thickness: 0.022inch; Depth: 0.5mm; Ratings: AEC-Q200; Radiation Hardening: No; Lead Free: Lead Free; ComponentLink1URL: https://datasheet.ciiva.com/17453/product-17453657.pdf?src-supplier=Avnet+Europe; ComponentLink1Description: https://datasheet.ciiva.com/17453/product-17453657.pdf?src-supplier=Avnet+Europe; ComponentLink2URL: https://datasheet.ciiva.com/26843/getdatasheetpartid-724076-26843661.pdf?src-supplier=Verical; ComponentLink2Description: https://datasheet.ciiva.com/26843/getdatasheetpartid-724076-26843661.pdf?src-supplier=Verical; ComponentLink3URL: https://datasheet.ciiva.com/29542/s0717e-29542489.pdf?src-supplier=Digi-Key; ComponentLink3Description: https://datasheet.ciiva.com/29542/s0717e-29542489.pdf?src-supplier=Digi-Key; ComponentLink4URL: https://datasheet.ciiva.com/11620/product-11620986.pdf?src-supplier=Avnet; ComponentLink4Description: https://datasheet.ciiva.com/11620/product-11620986.pdf?src-supplier=Avnet; ComponentLink5URL: https://datasheet.ciiva.com/29542/s0717e-29542490.pdf?src-supplier=Digi-Key; ComponentLink5Description: https://datasheet.ciiva.com/29542/s0717e-29542490.pdf?src-supplier=Digi-Key; ComponentLink6URL: https://datasheet.ciiva.com/29542/s0717e-29542491.pdf?src-supplier=Digi-Key; ComponentLink6Description: https://datasheet.ciiva.com/29542/s0717e-29542491.pdf?src-supplier=Digi-Key; ComponentLink7URL: https://datasheet.ciiva.com/16440/s0717e-16440396.pdf?src-supplier=Future+Electronics; ComponentLink7Description: https://datasheet.ciiva.com/16440/s0717e-16440396.pdf?src-supplier=Future+Electronics
footprint CAP0402 (Chip Capacitor, 2-Leads, Body 1.00x0.50mm, IPC Medium Density)
pins: 1, 2

## GCM155R71H333KE02D
designator C?, comment 33nF
MLCC 33nF 0402 SMD; Manufacturer: Murata; Manufacturer Part Number: GCM155R71H333KE02D; Voltage Rating: 50V; Tolerance: 10%; Dielectric: X7R; Supplier 1: Digi-Key; Stock 1: 67232; Pricing 1: 1=0.10000, 10=0.05600, 100=0.02480, 500=0.01772, 1000=0.01392, 2500=0.01265, 5000=0.01164 (USD); RoHS: Yes; Mount: Surface Mount; Case/Package: 0402; Weight: 0.000212oz; Case Code (Metric): 1005; Case Code (Imperial): 0402; Min Operating Temperature: -55°C; Max Operating Temperature: 125°C; Capacitance: 33nF; Packaging: Tape and Reel; Termination: SMD/SMT; Voltage Rating (DC): 50V; Package Quantity: 10000; Length: 0.039inch; Height: 0.5mm; Width: 0.5mm; Thickness: 0.022inch; Ratings: AEC-Q200; ComponentLink1URL: http://www.mouser.com/ds/2/281/c03e-806517.pdf?src-supplier=Mouser; ComponentLink1Description: http://www.mouser.com/ds/2/281/c03e-806517.pdf?src-supplier=Mouser; ComponentLink2URL: http://www.murata.com/~/media/webrenewal/support/library/catalog/products/capacitor/mlcc/c03e.ashx?src-supplier=Digi-Key; ComponentLink2Description: http://www.murata.com/~/media/webrenewal/support/library/catalog/products/capacitor/mlcc/c03e.ashx?src-supplier=Digi-Key; ComponentLink3URL: http://search.murata.co.jp/Ceramy/image/img/A01X/partnumbering_e_02.pdf?src-supplier=Digi-Key; ComponentLink3Description: http://search.murata.co.jp/Ceramy/image/img/A01X/partnumbering_e_02.pdf?src-supplier=Digi-Key
footprint CAP0402 (Chip Capacitor, 2-Leads, Body 1.00x0.50mm, IPC Medium Density)
pins: 1, 2

## GCM1555C1H100JA16D
designator C?, comment 10pF
MLCC 10pF 0402 SMD; Manufacturer: Murata; Manufacturer Part Number: GCM1555C1H100JA16D; Tolerance: 5%; Dielectric: C0G; Voltage Rating (DC): 50V; Supplier 1: Digi-Key; Stock 1: 755301; Pricing 1: 1=0.10000, 10=0.05900, 100=0.02640, 500=0.01884, 1000=0.01480, 2500=0.01345, 5000=0.01237 (USD); RoHS: Yes; Mount: Surface Mount; Case/Package: 0402; Weight: 0.000212oz; Case Code (Metric): 1005; Case Code (Imperial): 0402; Min Operating Temperature: -55°C; Max Operating Temperature: 125°C; Capacitance: 10pF; Packaging: Tape and Reel; Voltage Rating: 50V; Termination: SMD/SMT; Package Quantity: 10000; Length: 0.039inch; Height: 0.5mm; Width: 0.02inch; Thickness: 0.022inch; Ratings: AEC-Q200; REACH SVHC: No SVHC; Lead Free: Lead Free; ComponentLink1URL: http://www.farnell.com/datasheets/1955633.pdf?src-supplier=Farnell; ComponentLink1Description: http://www.farnell.com/datasheets/1955633.pdf?src-supplier=Farnell; ComponentLink2URL: http://www.mouser.com/ds/2/281/c03e-806517.pdf?src-supplier=Mouser; ComponentLink2Description: http://www.mouser.com/ds/2/281/c03e-806517.pdf?src-supplier=Mouser; ComponentLink3URL: http://psearch.en.murata.com/capacitor/product/GCM1555C1H100JA16%23.pdf?src-supplier=Avnet; ComponentLink3Description: http://psearch.en.murata.com/capacitor/product/GCM1555C1H100JA16%23.pdf?src-supplier=Avnet; ComponentLink4URL: http://www.farnell.com/datasheets/1955633.pdf?src-supplier=Element14; ComponentLink4Description: http://www.farnell.com/datasheets/1955633.pdf?src-supplier=Element14; ComponentLink5URL: http://search.murata.co.jp/Ceramy/image/img/A01X/partnumbering_e_02.pdf?src-supplier=Digi-Key; ComponentLink5Description: http://search.murata.co.jp/Ceramy/image/img/A01X/partnumbering_e_02.pdf?src-supplier=Digi-Key
footprint CAP0402 (Chip Capacitor, 2-Leads, Body 1.00x0.50mm, IPC Medium Density)
pins: 1, 2

## GCM1555C1H151JA16D
designator C?, comment 150pF
MLCC 150pF 0402 SMD; Manufacturer: Murata; Manufacturer Part Number: GCM1555C1H151JA16D; Tolerance: 5%; Dielectric: C0G; Voltage Rating: 50V; Supplier 1: Digi-Key; Stock 1: 177346; Pricing 1: 1=0.10000, 10=0.06400, 100=0.02850, 500=0.02038, 1000=0.01601, 2500=0.01455, 5000=0.01339 (USD); RoHS: Yes; Mount: Surface Mount; Case/Package: 0402; Case Code (Metric): 1005; Case Code (Imperial): 0402; Min Operating Temperature: -55°C; Max Operating Temperature: 125°C; Capacitance: 150pF; Package Quantity: 1; Packaging: Tape and Reel; Voltage Rating (DC): 50V; Termination: SMD/SMT; Voltage: 50V; Length: 1mm; Height: 0.5mm; Width: 0.02inch; Thickness: 0.022inch; Depth: 0.5mm; Ratings: AEC-Q200; Radiation Hardening: No; Lead Free: Lead Free; ComponentLink1URL: https://datasheet.ciiva.com/155/product-155888.pdf?src-supplier=Digi-Key; ComponentLink1Description: https://datasheet.ciiva.com/155/product-155888.pdf?src-supplier=Digi-Key; ComponentLink2URL: https://datasheet.ciiva.com/155/product-155889.pdf?src-supplier=Digi-Key; ComponentLink2Description: https://datasheet.ciiva.com/155/product-155889.pdf?src-supplier=Digi-Key
footprint CAP0402 (Chip Capacitor, 2-Leads, Body 1.00x0.50mm, IPC Medium Density)
pins: 1, 2

## GCM1555C1H270JA16D
designator C?, comment 27pF
MLCC 27pF 0402 SMD; Manufacturer: Murata; Manufacturer Part Number: GCM1555C1H270JA16D; Voltage Rating: 50V; Tolerance: 5%; Dielectric: C0G; Supplier 1: Digi-Key; Stock 1: 633486; Pricing 1: 1=0.10000, 10=0.06200, 100=0.02770, 500=0.01978, 1000=0.01553, 2500=0.01412, 5000=0.01299 (USD); RoHS: Yes; Mount: Surface Mount; Case/Package: 0402; Weight: 0.000212oz; Case Code (Metric): 1005; Case Code (Imperial): 0402; Min Operating Temperature: -55°C; Max Operating Temperature: 125°C; Capacitance: 27pF; Packaging: Tape and Reel; Termination: SMD/SMT; Voltage Rating (DC): 50V; Package Quantity: 10000; Length: 0.039inch; Height: 0.5mm; Width: 0.02inch; Thickness: 0.022inch; Ratings: AEC-Q200; ComponentLink1URL: http://www.mouser.com/ds/2/281/c03e-806517.pdf?src-supplier=Mouser; ComponentLink1Description: http://www.mouser.com/ds/2/281/c03e-806517.pdf?src-supplier=Mouser; ComponentLink2URL: http://psearch.en.murata.com/capacitor/product/GCM1555C1H270JA16%23.pdf?src-supplier=Avnet; ComponentLink2Description: http://psearch.en.murata.com/capacitor/product/GCM1555C1H270JA16%23.pdf?src-supplier=Avnet; ComponentLink3URL: https://www.murata.com/~/media/webrenewal/support/library/catalog/products/capacitor/mlcc/c03e.ashx?la=en-us&src-supplier=Digi-Key; ComponentLink3Description: https://www.murata.com/~/media/webrenewal/support/library/catalog/products/capacitor/mlcc/c03e.ashx?la=en-us&src-supplier=Digi-Key
footprint CAP0402 (Chip Capacitor, 2-Leads, Body 1.00x0.50mm, IPC Medium Density)
pins: 1, 2

## GRM32EE70G107ME19
designator C?, comment 100uF
MLCC 100uF 1210 SMD; Manufacturer: Murata; Manufacturer Part Number: GRM32EE70G107ME19L; Material: Ceramic; Tolerance: 20%; Voltage Rating (DC): 4V; Dielectric: X7U; Supplier 1: Digi-Key; Stock 1: 18905; Pricing 1: 1=1.27000, 10=1.00100, 100=0.75060, 500=0.56716 (USD); RoHS: Yes; Mount: Surface Mount; Case/Package: 1210; Number of Pins: 2; Case Code (Imperial): 1210; Case Code (Metric): 3225; Min Operating Temperature: -55°C; Max Operating Temperature: 125°C; Capacitance: 100uF; Packaging: Tape and Reel; Termination: SMD/SMT; Voltage Rating: 4V; Package Quantity: 1; Length: 3.2mm; Height: 2.5mm; Width: 2.5mm; Thickness: 0.106inch; Depth: 2.5mm; Lead Pitch: 1mm; Radiation Hardening: No; REACH SVHC: No SVHC; Lead Free: Lead Free; ComponentLink1URL: https://datasheet.ciiva.com/5422/product-5422439.pdf?src-supplier=Mouser; ComponentLink1Description: https://datasheet.ciiva.com/5422/product-5422439.pdf?src-supplier=Mouser; ComponentLink2URL: https://datasheet.ciiva.com/6264/partnumbering-e-01-6264538.pdf?src-supplier=Digi-Key; ComponentLink2Description: https://datasheet.ciiva.com/6264/partnumbering-e-01-6264538.pdf?src-supplier=Digi-Key; ComponentLink3URL: https://datasheet.ciiva.com/7719/1303574-7719178.pdf?src-supplier=Element14; ComponentLink3Description: https://datasheet.ciiva.com/7719/1303574-7719178.pdf?src-supplier=Element14; ComponentLink4URL: https://datasheet.ciiva.com/6264/partnumbering-e-01-6264539.pdf?src-supplier=Digi-Key; ComponentLink4Description: https://datasheet.ciiva.com/6264/partnumbering-e-01-6264539.pdf?src-supplier=Digi-Key; ComponentLink5URL: https://datasheet.ciiva.com/14116/grmseries-highdielectrictype-eng-14116427.pdf?src-supplier=Distrelec; ComponentLink5Description: https://datasheet.ciiva.com/14116/grmseries-highdielectrictype-eng-14116427.pdf?src-supplier=Distrelec; ComponentLink6URL: https://datasheet.ciiva.com/6264/partnumbering-e-01-6264540.pdf?src-supplier=Digi-Key; ComponentLink6Description: https://datasheet.ciiva.com/6264/partnumbering-e-01-6264540.pdf?src-supplier=Digi-Key; ComponentLink7URL: https://datasheet.ciiva.com/11605/product-11605486.pdf?src-supplier=Avnet; ComponentLink7Description: https://datasheet.ciiva.com/11605/product-11605486.pdf?src-supplier=Avnet
footprint CAP1210 (Chip Capacitor, 2-Leads, Body 3.20x2.50mm, IPC Medium Density)
pins: 1, 2

## GRM32ER70J476ME20L
designator C?, comment 47uF
MLCC 47uF 1210 SMD; Manufacturer: Murata; Manufacturer Part Number: GRM32ER70J476ME20L; Tolerance: 20%; Voltage Rating: 6.3V; Dielectric: X7R; Supplier 1: Digi-Key; Stock 1: 32926; Pricing 1: 1=2.11000, 10=1.70900, 100=1.30480, 500=0.99416 (USD); RoHS: Yes; Mount: Surface Mount; Case/Package: 1210; Case Code (Metric): 3225; Case Code (Imperial): 1210; Min Operating Temperature: -55°C; Max Operating Temperature: 125°C; Package Quantity: 1; Packaging: Tape and Reel; Capacitance: 47uF; Voltage Rating (DC): 6.3V; Termination: SMD/SMT; Length: 3.2mm; Height: 2.5mm; Width: 0.098inch; Thickness: 0.106inch; Depth: 2.5mm; Radiation Hardening: No; Lead Free: Lead Free; ComponentLink1URL: https://datasheet.ciiva.com/6264/partnumbering-e-01-6264582.pdf?src-supplier=Digi-Key; ComponentLink1Description: https://datasheet.ciiva.com/6264/partnumbering-e-01-6264582.pdf?src-supplier=Digi-Key; ComponentLink2URL: https://datasheet.ciiva.com/6264/partnumbering-e-01-6264583.pdf?src-supplier=Digi-Key; ComponentLink2Description: https://datasheet.ciiva.com/6264/partnumbering-e-01-6264583.pdf?src-supplier=Digi-Key; ComponentLink3URL: https://datasheet.ciiva.com/6264/partnumbering-e-01-6264585.pdf?src-supplier=Digi-Key; ComponentLink3Description: https://datasheet.ciiva.com/6264/partnumbering-e-01-6264585.pdf?src-supplier=Digi-Key; ComponentLink4URL: https://datasheet.ciiva.com/16497/product-16497003.pdf?src-supplier=Future+Electronics; ComponentLink4Description: https://datasheet.ciiva.com/16497/product-16497003.pdf?src-supplier=Future+Electronics
footprint CAP1210 (Chip Capacitor, 2-Leads, Body 3.20x2.50mm, IPC Medium Density)
pins: 1, 2

## GRM155C81A105KA12D
designator C?, comment 1uF
MLCC 1uF 0402 SMD; Manufacturer: Murata; Manufacturer Part Number: GRM155C81A105KA12D; Material: Ceramic; Tolerance: 10%; Dielectric: X6S; Voltage Rating: 10V; Supplier 1: Digi-Key; Stock 1: 1982310; Pricing 1: 1=0.10000, 10=0.07100, 100=0.03160, 500=0.02254, 1000=0.01771, 2500=0.01610, 5000=0.01481 (USD); RoHS: Yes; Mount: Surface Mount; Case/Package: 0402; Weight: 0.000212oz; Case Code (Metric): 1005; Case Code (Imperial): 0402; Min Operating Temperature: -55°C; Max Operating Temperature: 105°C; Capacitance: 1uF; Packaging: Tape and Reel; Termination: SMD/SMT; Composition: Ceramic; Voltage Rating (DC): 10V; Package Quantity: 10000; Length: 1mm; Height: 0.5mm; Width: 0.5mm; Thickness: 0.022inch; Lead Free: Lead Free; ComponentLink1URL: http://www.mouser.com/ds/2/281/c02e-2905.pdf?src-supplier=Mouser; ComponentLink1Description: http://www.mouser.com/ds/2/281/c02e-2905.pdf?src-supplier=Mouser; ComponentLink2URL: http://search.murata.co.jp/Ceramy/image/img/A01X/G101/ENG/GRM155C81A105KA12-01.pdf?src-supplier=Digi-Key; ComponentLink2Description: http://search.murata.co.jp/Ceramy/image/img/A01X/G101/ENG/GRM155C81A105KA12-01.pdf?src-supplier=Digi-Key; ComponentLink3URL: http://search.murata.co.jp/Ceramy/image/img/A01X/partnumbering_e_01.pdf?src-supplier=Digi-Key; ComponentLink3Description: http://search.murata.co.jp/Ceramy/image/img/A01X/partnumbering_e_01.pdf?src-supplier=Digi-Key
footprint CAP0402 (Chip Capacitor, 2-Leads, Body 1.00x0.50mm, IPC Medium Density)
pins: 1, 2

## GRM155R61A225KE95D
designator C?, comment 2.2uF
MLCC 2.2uF 0402 SMD; Manufacturer: Murata; Manufacturer Part Number: GRM155R61A225KE95D; Material: Ceramic; Tolerance: 10%; Voltage Rating: 10V; Dielectric: X5R; Supplier 1: Digi-Key; Stock 1: 1367863; Pricing 1: 1=0.13000, 10=0.09000, 100=0.04250, 500=0.02982, 1000=0.02469, 2500=0.02298, 5000=0.02103 (USD); RoHS: Yes; Mount: Surface Mount; Case/Package: 0402; Weight: 0.000212oz; Case Code (Metric): 1005; Case Code (Imperial): 0402; Min Operating Temperature: -55°C; Max Operating Temperature: 85°C; Capacitance: 2.2uF; Packaging: Tape and Reel; Termination: SMD/SMT; Voltage Rating (DC): 10V; Package Quantity: 10000; Length: 1mm; Height: 0.5mm; Width: 0.5mm; Thickness: 0.022inch; Depth: 0.5mm; REACH SVHC: No SVHC; Lead Free: Lead Free; ComponentLink1URL: http://www.mouser.com/ds/2/281/c02e-2905.pdf?src-supplier=Mouser; ComponentLink1Description: http://www.mouser.com/ds/2/281/c02e-2905.pdf?src-supplier=Mouser; ComponentLink2URL: http://components.arrow.com/part/dataview/0323_04264073?src-supplier=Arrow+Europe; ComponentLink2Description: http://components.arrow.com/part/dataview/0323_04264073?src-supplier=Arrow+Europe; ComponentLink3URL: http://www.farnell.com/datasheets/1872202.pdf?src-supplier=Farnell; ComponentLink3Description: http://www.farnell.com/datasheets/1872202.pdf?src-supplier=Farnell; ComponentLink4URL: http://www.farnell.com/datasheets/2047915.pdf?src-supplier=Farnell; ComponentLink4Description: http://www.farnell.com/datasheets/2047915.pdf?src-supplier=Farnell; ComponentLink5URL: http://www.farnell.com/datasheets/1872202.pdf?src-supplier=Element14; ComponentLink5Description: http://www.farnell.com/datasheets/1872202.pdf?src-supplier=Element14; ComponentLink6URL: http://psearch.en.murata.com/capacitor/product/GRM155R61A225KE95%23.pdf?src-supplier=Avnet; ComponentLink6Description: http://psearch.en.murata.com/capacitor/product/GRM155R61A225KE95%23.pdf?src-supplier=Avnet; ComponentLink7URL: http://www.farnell.com/datasheets/2047915.pdf?src-supplier=Element14; ComponentLink7Description: http://www.farnell.com/datasheets/2047915.pdf?src-supplier=Element14; ComponentLink8URL: https://search.murata.co.jp/Ceramy/image/img/A01X/G101/ENG/GRM155R61A225KE95-01.pdf?src-supplier=Digi-Key; ComponentLink8Description: https://search.murata.co.jp/Ceramy/image/img/A01X/G101/ENG/GRM155R61A225KE95-01.pdf?src-supplier=Digi-Key; ComponentLink9URL: http://www.farnell.com/datasheets/2047915.pdf?src-supplier=Newark; ComponentLink9Description: http://www.farnell.com/datasheets/2047915.pdf?src-supplier=Newark
footprint CAP0402 (Chip Capacitor, 2-Leads, Body 1.00x0.50mm, IPC Medium Density)
pins: 1, 2

## GRM155R71C223KA01D
designator C?, comment 22nF
MLCC 22nF 0402 SMD; Manufacturer: Murata; Manufacturer Part Number: GRM155R71C223KA01D; Material: Ceramic; Tolerance: 10%; Dielectric: X7R; Voltage Rating: 16V; Supplier 1: Digi-Key; Stock 1: 3669421; Pricing 1: 1=0.10000, 10=0.04000, 100=0.01800, 500=0.01288, 1000=0.01012, 2500=0.00920, 5000=0.00846 (USD); RoHS: Yes; Mount: Surface Mount; Case/Package: 0402; Number of Pins: 2; Weight: 2.3E-05oz; Case Code (Metric): 1005; Case Code (Imperial): 0402; Min Operating Temperature: -55°C; Max Operating Temperature: 125°C; Capacitance: 22nF; Packaging: Tape and Reel; Package Quantity: 10000; Voltage Rating (DC): 16V; Termination: SMD/SMT; Voltage: 16V; Length: 1mm; Height: 0.5mm; Width: 0.02inch; Thickness: 0.022inch; Depth: 0.5mm; Radiation Hardening: No; REACH SVHC: No SVHC; Lead Free: Lead Free; ComponentLink1URL: https://datasheet.ciiva.com/6031/608985-6031840.pdf?src-supplier=Farnell; ComponentLink1Description: https://datasheet.ciiva.com/6031/608985-6031840.pdf?src-supplier=Farnell; ComponentLink2URL: https://datasheet.ciiva.com/16199/product-16199216.pdf?src-supplier=Future+Electronics; ComponentLink2Description: https://datasheet.ciiva.com/16199/product-16199216.pdf?src-supplier=Future+Electronics; ComponentLink3URL: https://datasheet.ciiva.com/19476/1856361-19476482.pdf?src-supplier=Jameco; ComponentLink3Description: https://datasheet.ciiva.com/19476/1856361-19476482.pdf?src-supplier=Jameco; ComponentLink4URL: https://datasheet.ciiva.com/130/grm155r71c223ka01-01-130699.pdf?src-supplier=Digi-Key; ComponentLink4Description: https://datasheet.ciiva.com/130/grm155r71c223ka01-01-130699.pdf?src-supplier=Digi-Key; ComponentLink5URL: https://datasheet.ciiva.com/18102/getdatasheetpartid-74204-18102539.pdf?src-supplier=Verical; ComponentLink5Description: https://datasheet.ciiva.com/18102/getdatasheetpartid-74204-18102539.pdf?src-supplier=Verical; ComponentLink6URL: https://datasheet.ciiva.com/29199/454111-da-01-en-vs-kondensator-0402-29199804.pdf?src-supplier=Conrad; ComponentLink6Description: https://datasheet.ciiva.com/29199/454111-da-01-en-vs-kondensator-0402-29199804.pdf?src-supplier=Conrad; ComponentLink7URL: https://datasheet.ciiva.com/130/grm155r71c223ka01-01-130697.pdf?src-supplier=Digi-Key; ComponentLink7Description: https://datasheet.ciiva.com/130/grm155r71c223ka01-01-130697.pdf?src-supplier=Digi-Key; ComponentLink8URL: https://datasheet.ciiva.com/130/grm155r71c223ka01-01-130698.pdf?src-supplier=Digi-Key; ComponentLink8Description: https://datasheet.ciiva.com/130/grm155r71c223ka01-01-130698.pdf?src-supplier=Digi-Key
footprint CAP0402 (Chip Capacitor, 2-Leads, Body 1.00x0.50mm, IPC Medium Density)
pins: 1, 2

## GRM155R71E473KA88D
designator C?, comment 47nF
MLCC 47nF 0402 SMD; Manufacturer: Murata; Manufacturer Part Number: GRM155R71E473KA88D; Material: Ceramic; Tolerance: 10%; Voltage Rating: 25V; Dielectric: X7R; Supplier 1: Digi-Key; Stock 1: 1130633; Pricing 1: 1=0.10000, 10=0.06300, 100=0.02820, 500=0.02012, 1000=0.01581, 2500=0.01438, 5000=0.01323 (USD); RoHS: Yes; Mount: Surface Mount; Case/Package: 0402; Number of Pins: 2; Case Code (Metric): 1005; Case Code (Imperial): 0402; Min Operating Temperature: -55°C; Max Operating Temperature: 125°C; Capacitance: 47nF; Package Quantity: 1; Packaging: Tape and Reel; Termination: SMD/SMT; Voltage: 25V; Voltage Rating (DC): 25V; Length: 1mm; Height: 0.5mm; Width: 0.02inch; Thickness: 0.022inch; Depth: 0.5mm; Radiation Hardening: No; REACH SVHC: No SVHC; Lead Free: Lead Free; ComponentLink1URL: https://datasheet.ciiva.com/131/grm155r71e473ka88-01-131494.pdf?src-supplier=Digi-Key; ComponentLink1Description: https://datasheet.ciiva.com/131/grm155r71e473ka88-01-131494.pdf?src-supplier=Digi-Key; ComponentLink2URL: https://datasheet.ciiva.com/34302/1856425-34302854.pdf?src-supplier=Jameco; ComponentLink2Description: https://datasheet.ciiva.com/34302/1856425-34302854.pdf?src-supplier=Jameco; ComponentLink3URL: https://datasheet.ciiva.com/18184/getdatasheetpartid-153136-18184712.pdf?src-supplier=Verical; ComponentLink3Description: https://datasheet.ciiva.com/18184/getdatasheetpartid-153136-18184712.pdf?src-supplier=Verical; ComponentLink4URL: https://datasheet.ciiva.com/29199/454180-da-01-en-vs-kondensator-0402-29199826.pdf?src-supplier=Conrad; ComponentLink4Description: https://datasheet.ciiva.com/29199/454180-da-01-en-vs-kondensator-0402-29199826.pdf?src-supplier=Conrad; ComponentLink5URL: https://datasheet.ciiva.com/2989/product-2989395.pdf?src-supplier=Avnet; ComponentLink5Description: https://datasheet.ciiva.com/2989/product-2989395.pdf?src-supplier=Avnet; ComponentLink6URL: https://datasheet.ciiva.com/131/grm155r71e473ka88-01-131492.pdf?src-supplier=Digi-Key; ComponentLink6Description: https://datasheet.ciiva.com/131/grm155r71e473ka88-01-131492.pdf?src-supplier=Digi-Key; ComponentLink7URL: https://datasheet.ciiva.com/131/grm155r71e473ka88-01-131493.pdf?src-supplier=Digi-Key; ComponentLink7Description: https://datasheet.ciiva.com/131/grm155r71e473ka88-01-131493.pdf?src-supplier=Digi-Key; ComponentLink8URL: https://datasheet.ciiva.com/7937/608985-7937623.pdf?src-supplier=Element14; ComponentLink8Description: https://datasheet.ciiva.com/7937/608985-7937623.pdf?src-supplier=Element14; ComponentLink9URL: https://datasheet.ciiva.com/14103/grmseries-highdielectrictype-eng-14103754.pdf?src-supplier=Distrelec; ComponentLink9Description: https://datasheet.ciiva.com/14103/grmseries-highdielectrictype-eng-14103754.pdf?src-supplier=Distrelec; ComponentLink10URL: https://datasheet.ciiva.com/5424/product-5424844.pdf?src-supplier=Mouser; ComponentLink10Description: https://datasheet.ciiva.com/5424/product-5424844.pdf?src-supplier=Mouser
footprint CAP0402 (Chip Capacitor, 2-Leads, Body 1.00x0.50mm, IPC Medium Density)
pins: 1, 2